# Altium footprint library NODE_V2.PcbLib: 36 footprints (part 2 of 3)
Each footprint in its own frame and in the unit in brackets; x right, y up, seen from the top. Pads: shape width x height; smd on the part's side, far side on the other; paste and mask are expansions set on the pad; w line width, h text height; cw(c..) or ccw(c..) is an arc to the next point about the centre after c.
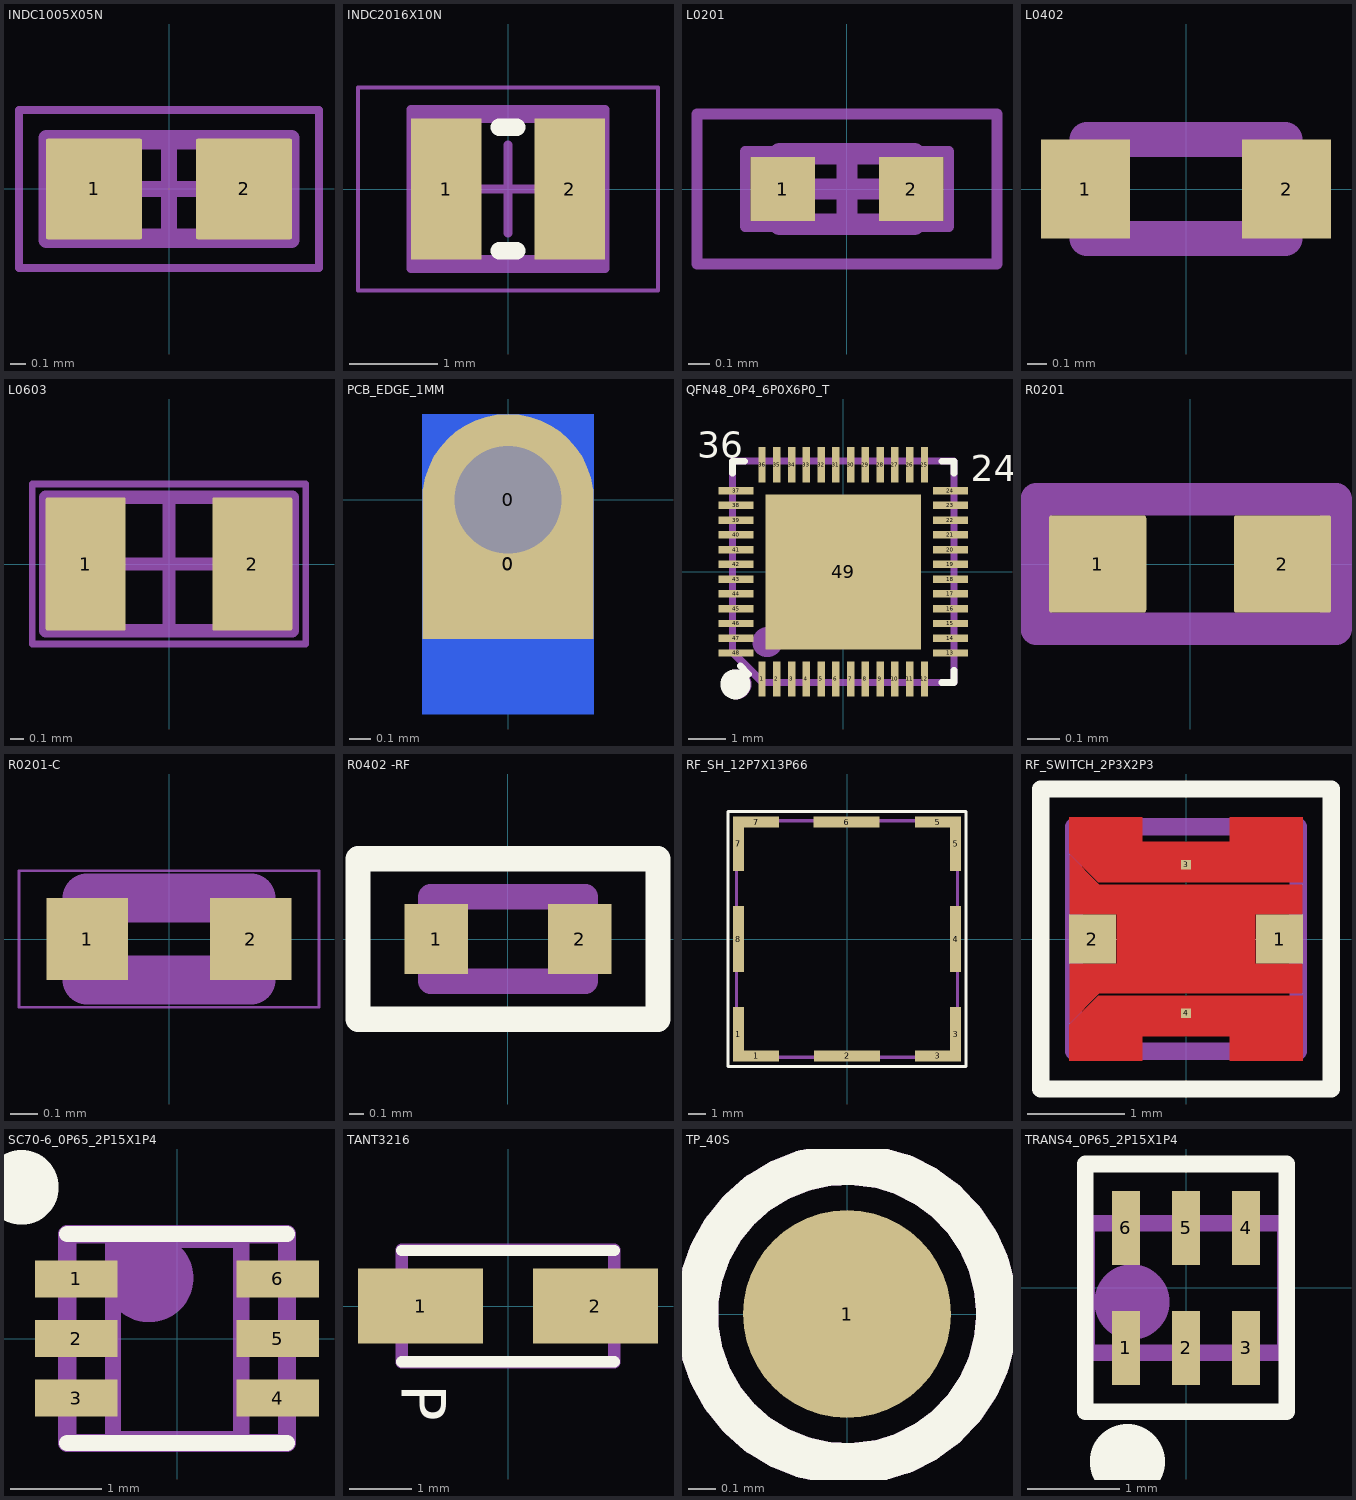
[diagram p1: the footprints below, top view; thin cyan lines are the x and y axes]

## INDC1005X05N [mm]
pads (2):
  rrect5% 0.61x0.64 smd: 1(-0.475,0) 2(0.475,0)
Mechanical 13:
  lines w0.1: -0.55,-0.3 -0.55,0.3 0.55,0.3 0.55,-0.3 -0.55,-0.3
Mechanical 15:
  lines w0.05: -0.95,-0.5 -0.95,0.5 0.95,0.5 0.95,-0.5 -0.95,-0.5
  lines w0.1: -0.3,0 0.3,0 ; 0,-0.3 0,0.3
Mechanical 16:
  lines w0.1: -0.775,-0.325 0.775,-0.325 0.775,0.325 -0.775,0.325 -0.775,-0.325
Mechanical 28:
  text ".Comment" at -0.725,-0.225 h0.4
Mechanical 29:
  text ".Designator" at -0.4,-0.2 h0.4
3D body: height 0.5, standoff 0, extent -0.55,-0.3 0.55,0.3

## INDC2016X10N [mm]
pads (2):
  rect 0.8x1.6 smd: 1(-0.7,0) 2(0.7,0)
Top Overlay:
  lines w0.2: -0.1,-0.7 0.1,-0.7 ; -0.1,0.7 0.1,0.7
Mechanical 13:
  lines w0.1: -1.1,-0.9 1.1,-0.9 1.1,0.9 -1.1,0.9 -1.1,-0.9
Mechanical 15:
  lines w0.05: -1.7,-1.15 1.7,-1.15 1.7,1.15 -1.7,1.15 -1.7,-1.15
  lines w0.1: -0.5,0 0.5,0 ; 0,-0.5 0,0.5
Mechanical 16:
  lines w0.1: -1.1,-0.8 -1.1,0.8 1.1,0.8 1.1,-0.8 -1.1,-0.8
Mechanical 28:
  text ".Comment" at 3.9,-1.125 h0.4
Mechanical 29:
  text ".Designator" at 0.85,0.325 h0.7
3D body: height 1, standoff 0, extent -1.1,-0.9 1.1,0.9

## L0201 [mm]
pads (2):
  rect 0.3x0.3 smd: 1(-0.3,0) 2(0.3,0)
Mechanical 13:
  lines w0.1: -0.315,-0.165 0.315,-0.165 0.315,0.165 -0.315,0.165 -0.315,-0.165
Mechanical 15:
  lines w0.05: -0.7,-0.35 0.7,-0.35 0.7,0.35 -0.7,0.35 -0.7,-0.35
  lines w0.1: -0.165,0 0.165,0 ; 0,-0.165 0,0.165
Mechanical 16:
  lines w0.05: -0.475,-0.175 -0.475,0.175 0.475,0.175 0.475,-0.175 -0.475,-0.175
Mechanical 28:
  text ".Comment" at -0.4,-0.1 h0.18
Mechanical 29:
  text ".Designator" at -0.1,-0.1 h0.2
3D body: height 0.3, standoff 0, extent -0.315,-0.165 0.315,0.165

## L0402 [mm]
height 0.6
pads (2):
  rect 0.45x0.5 smd: 1(-0.508,0) 2(0.508,0)
Mechanical 2:
  lines w0.178: -0.5,-0.25 0.5,-0.25 0.5,0.25 -0.5,0.25 -0.5,-0.25
Mechanical 16:
  lines w0.05: -0.5,-0.25 0.5,-0.25 0.5,0.25 -0.5,0.25 -0.5,-0.25
Mechanical 28:
  text ".Comment" at 4,-1 h0.3
Mechanical 29:
  text ".Designator" at 0.4,0.175 h0.3
3D body: height 0.6, standoff 0, extent -0.5,-0.25 0.508,0.25

## L0603 [mm]
pads (2):
  rrect5% 0.6x1 smd: 1(-0.625,0) 2(0.625,0)
Mechanical 13:
  lines w0.1: -0.9,-0.5 -0.9,0.5 0.9,0.5 0.9,-0.5 -0.9,-0.5
Mechanical 15:
  lines w0.05: -1.025,-0.6 -1.025,0.6 1.025,0.6 1.025,-0.6 -1.025,-0.6
  lines w0.1: -0.5,0 0.5,0 ; 0,-0.5 0,0.5
Mechanical 16:
  lines w0.1: -0.925,-0.5 0.925,-0.5 0.925,0.5 -0.925,0.5 -0.925,-0.5
Mechanical 28:
  text ".Comment" at 0.775,0.3 h0.45
Mechanical 29:
  text ".Designator" at 0.725,0.3 h0.6
3D body: height 1, standoff 0, extent -0.9,-0.5 0.9,0.5

## PCB_EDGE_1MM [mm]
pads (3):
  rect 0.8x1.4 smd far side: 0(0,-0.3)
  rect 0.8x0.7 smd paste-0.4: 0(0,-0.3)
  round 0.8 hole 0.5: 0(0,0)

## QFN48_0P4_6P0X6P0_T [mm]
height 0.9
pads (49):
  rect 0.2x0.95 smd: 1(-2.2,-2.9) 2(-1.8,-2.9) 3(-1.4,-2.9) 4(-1,-2.9) 5(-0.6,-2.9) 6(-0.2,-2.9) 7(0.2,-2.9) 8(0.6,-2.9) 9(1,-2.9) 10(1.4,-2.9) 11(1.8,-2.9) 12(2.2,-2.9) 25(2.2,2.9) 26(1.8,2.9) 27(1.4,2.9) 28(1,2.9) 29(0.6,2.9) 30(0.2,2.9) 31(-0.2,2.9) 32(-0.6,2.9) 33(-1,2.9) 34(-1.4,2.9) 35(-1.8,2.9) 36(-2.2,2.9)
  rect 0.95x0.2 smd: 13(2.9,-2.2) 14(2.9,-1.8) 15(2.9,-1.4) 16(2.9,-1) 17(2.9,-0.6) 18(2.9,-0.2) 19(2.9,0.2) 20(2.9,0.6) 21(2.9,1) 22(2.9,1.4) 23(2.9,1.8) 24(2.9,2.2) 37(-2.9,2.2) 38(-2.9,1.8) 39(-2.9,1.4) 40(-2.9,1) 41(-2.9,0.6) 42(-2.9,0.2) 43(-2.9,-0.2) 44(-2.9,-0.6) 45(-2.9,-1) 46(-2.9,-1.4) 47(-2.9,-1.8) 48(-2.9,-2.2)
  rect 4.2x4.2 smd: 49(0,0)
Top Overlay:
  circle w0.762: c-2.921,-3.048 r0.025
  lines w0.178: -3,2.667 -3,3 -2.667,3 ; -2.794,-2.54 -2.559,-2.775 ; 2.667,-3 3,-3 3,-2.667 ; 2.667,3 3,3 3,2.667
  text "24" at 3.454,2.451 h0.71
  text "36" at -3.962,3.086 h0.71
Mechanical 2:
  circle w0.762: c-2.057,-1.905 r0.025
  lines w0.18: -3,-2.2 -3,3 3,3 3,-3 -2.2,-3 -3,-2.2
Mechanical 16:
  circle w0.508: c-2.896,-3.048 r0.152
  lines w0.1: -3,-2.1 -3,3 3,3 3,-3 -2.1,-3 -3,-2.1
Mechanical 28:
  text ".Comment" at -1.425,-0.375 h0.4
Mechanical 29:
  text ".Designator" at -0.432,-0.343 h0.5
3D body: height 0.9, standoff 0, extent -3.477,-3.477 3.477,3.477

## R0201 [mm]
pads (2):
  rrect5% 0.3x0.3 smd mask+0.04: 1(-0.285,0) 2(0.285,0)
Mechanical 16:
  lines w0.1: -0.475,-0.2 0.45,-0.2 0.45,0.2 -0.475,0.2 -0.475,-0.2
Mechanical 28:
  text ".Comment" at -0.425,-0.15 h0.25
Mechanical 29:
  text ".Designator" at -0.4,-0.125 h0.25
3D body: height 0.32, standoff -0.01, extent -0.3,-0.15 0.3,0.15

## R0201-C [mm]
height 0.8
pads (2):
  rect 0.3x0.3 smd: 1(-0.3,0) 2(0.3,0)
Mechanical 2:
  lines w0.18: -0.3,-0.15 0.3,-0.15 0.3,0.15 -0.3,0.15 -0.3,-0.15
Mechanical 16:
  lines w0.01: -0.55,-0.25 -0.55,0.25 0.55,0.25 0.55,-0.25 -0.15,-0.25 -0.55,-0.25
Mechanical 28:
  text ".Comment" at -0.4,-0.15 h0.25
Mechanical 29:
  text ".Designator" at -0.4,-0.175 h0.35
3D body: height 0.8, standoff 0, extent -0.762,-0.381 0.762,0.381

## R0402 -RF [mm]
height 0.4
pads (2):
  rect 0.45x0.5 smd: 1(-0.508,0) 2(0.508,0)
Top Overlay:
  lines w0.178: -1.064,-0.569 1.064,-0.569 1.064,0.569 -1.064,0.569 -1.064,-0.569
Mechanical 2:
  lines w0.178: -0.55,-0.3 -0.55,0.3 0.55,0.3 0.55,-0.3 -0.55,-0.3
Mechanical 16:
  lines w0.05: -0.55,-0.3 0.55,-0.3 0.55,0.3 -0.55,0.3 -0.55,-0.3
Mechanical 28:
  text ".Comment" at -0.325,-0.2 h0.4
Mechanical 29:
  text ".Designator" at -0.325,-0.175 h0.4
3D body: height 0.4, standoff 0, extent -1.063,-0.568 1.063,0.568

## RF_SH_12P7X13P66 [mm]
height 2.54
pads (12):
  rect 0.625x3.13 smd: 1(-6.25,-5.47) 3(6.25,-5.47) 5(6.25,5.47) 7(-6.25,5.47)
  rect 2.65x0.625 smd: 1(-5.23,-6.73) 3(5.23,-6.73) 5(5.23,6.73) 7(-5.23,6.73)
  rect 3.8x0.625 smd: 2(0,-6.73) 6(-0.019,6.73)
  rect 0.625x3.8 smd: 4(6.25,0) 8(-6.25,0)
Top Overlay:
  lines w0.18: -6.852,-7.333 6.852,-7.333 6.852,7.333 -6.852,7.333 -6.852,-7.333
Mechanical 2:
  lines w0.18: -6.35,-6.8 -6.35,6.8 6.35,6.8 6.35,-6.8 -6.35,-6.8
  text ".Designator" at 1.822,7.29 h0.51
3D body: height 2.54, standoff 0, extent -7.039,-7.519 7.039,7.519

## RF_SWITCH_2P3X2P3 [mm]
height 1.35
pads (12):
  rect 0.48x0.5 smd paste+0: 1(0.96,0) 2(-0.96,0)
  rect 0.1x0.1 smd: 3(0,0.762) 4(0,-0.762)
  rect 0.3x0.4 on Top Paste: ""(-0.96,0) ""(0.96,0)
  rect 0.4x0.4 on Top Paste: ""(-0.9,-1) ""(-0.9,1) ""(0.9,-1) ""(0.9,1)
  rect 0.5x0.3 on Top Paste: ""(0,-0.8) ""(0,0.8)
Top Layer:
  pour cut-out: -1.194,-0.254 -1.194,-0.864 -0.889,-0.559 1.194,-0.559 1.194,-0.254 0.711,-0.254 0.711,0.254 1.194,0.254 1.194,0.559 -0.889,0.559 -1.194,0.864 -1.194,0.254 -0.711,0.254 -0.711,-0.254
  region: 1.2,1.25 1.2,0.58 -0.9,0.58 -1.2,0.88 -1.2,1.25 -0.45,1.25 -0.45,1 0.45,1 0.45,1.25
  region: 1.2,-1.25 1.2,-0.58 -0.9,-0.58 -1.2,-0.88 -1.2,-1.25 -0.45,-1.25 -0.45,-1 0.45,-1 0.45,-1.25
Top Overlay:
  lines w0.178: -1.489,-1.539 1.489,-1.539 ; -1.489,-1.524 -1.489,1.524 ; -1.489,1.539 1.489,1.539 ; 1.489,-1.524 1.489,1.524
Top Solder:
  region: 1.2,1.25 1.2,0.58 -0.9,0.58 -1.2,0.88 -1.2,1.25 -0.45,1.25 -0.45,1 0.45,1 0.45,1.25
  region: 1.2,-1.25 1.2,-0.58 -0.9,-0.58 -1.2,-0.88 -1.2,-1.25 -0.45,-1.25 -0.45,-1 0.45,-1 0.45,-1.25
Mechanical 2:
  lines w0.178: -1.15,-1.15 -1.15,1.15 1.15,1.15 1.15,-1.15 -1.15,-1.15
Mechanical 16:
  lines w0.1: -1.489,1.524 1.489,1.524 1.489,-1.539 1.474,-1.524 -1.489,-1.524 -1.489,1.539
Mechanical 28:
  text ".Comment" at -0.55,-0.4 h0.25
Mechanical 29:
  text ".Designator" at -0.457,-0.432 h0.51
3D body: height 1.35, standoff 0, extent -1.578,-1.628 1.578,1.628

## SC70-6_0P65_2P15X1P4 [mm]
height 1.1
pads (6):
  rect 0.9x0.4 smd mask+0.05: 1(-1.1,0.65) 2(-1.1,0) 3(-1.1,-0.65) 4(1.1,-0.65) 5(1.1,0) 6(1.1,0.65)
Top Overlay:
  circle w0.762: c-1.7,1.65 r0.025
  lines w0.178: -1.2,-1.14 1.2,-1.14 ; -1.2,1.14 1.2,1.14
Mechanical 2:
  circle w0.762: c-0.305,0.66 r0.102
  lines w0.178: -0.7,-1.1 0.7,-1.1 ; -0.7,-1.075 -0.7,1.075 0.7,1.075 0.7,-1.075
Mechanical 16:
  lines w0.2: -1.2,-1.14 -1.2,1.14 1.199,1.14 1.2,1.139 1.2,-1.14 -1.2,-1.14
Mechanical 28:
  text ".Comment" at -1.15,-1.6 h0.3
Mechanical 29:
  text ".Designator" at -0.8,-0.35 h0.8
3D body: height 1.1, standoff 0, extent -1.2,-1.139 1.2,1.139

## TANT3216 [mm]
height 1.8
pads (2):
  rect 2x1.2 smd: 1(-1.4,0) 2(1.4,0)
Top Overlay:
  lines w0.178: -1.7,-0.889 1.7,-0.889 ; -1.7,0.889 1.7,0.889
  text "P" at -1.7,-1.25 h0.71
Mechanical 2:
  lines w0.178: -1.516,0 -0.516,0 ; -1.016,-0.5 -1.016,0.5 ; -1.7,-0.9 -1.7,0.9 1.7,0.9 1.7,-0.9 -1.7,-0.9
Mechanical 16:
  lines w0.2: -1.7,-0.9 -1.7,0.9 1.7,0.9 1.7,-0.9 -1.7,-0.9
Mechanical 28:
  text ".Comment" at -1.425,-0.425 h0.8
Mechanical 29:
  text ".Designator" at -1.45,-0.525 h1
3D body: height 1.6, standoff 0, extent -1.7,-0.9 1.7,0.9

## TP_40S [mil]
height 179.12
pads (1):
  round 30 smd: 1(0,0)
Top Overlay:
  circle w6: c0,0 r21.65
Mechanical 2:
  circle w6: c0,0 r21.65
  text ".Designator" at -14,-30 h28
3D body: height 179.12, standoff 0, extent -22.06,-22.06 22.06,22.06

## TRANS4_0P65_2P15X1P4 [mm]
height 1.05
pads (6):
  rect 0.3x0.8 smd: 1(-0.65,-0.65) 2(0,-0.65) 3(0.65,-0.65) 4(0.65,0.65) 5(0,0.65) 6(-0.65,0.65)
Top Overlay:
  circle w0.762: c-0.635,-1.88 r0.025
  lines w0.18: -1.09,-1.34 -1.09,1.34 1.09,1.34 1.09,-1.34 -1.09,-1.34
Mechanical 2:
  circle w0.762: c-0.584,-0.152 r0.025
  lines w0.18: -1.075,-0.7 -1.075,0.7 1.075,0.7 1.075,-0.7 -1.075,-0.7
Mechanical 16:
  lines w0.1: -1.089,-1.301 -1.089,1.339 -1.089,1.34 1.09,1.34 1.09,-1.34 -1.05,-1.34 -1.089,-1.301
Mechanical 28:
  text ".Comment" at 0.996,0.872 h0.25
Mechanical 29:
  text ".Designator" at 0.737,0.254 h0.51
3D body: height 1.05, standoff 0, extent -1.089,-1.339 1.089,1.339